# Altium footprint library PcbLib.PcbLib: 18 footprints (part 2 of 2)
Each footprint in its own frame and in the unit in brackets; x right, y up, seen from the top. Pads: shape width x height; smd on the part's side, far side on the other; paste and mask are expansions set on the pad; w line width, h text height; cw(c..) or ccw(c..) is an arc to the next point about the centre after c.
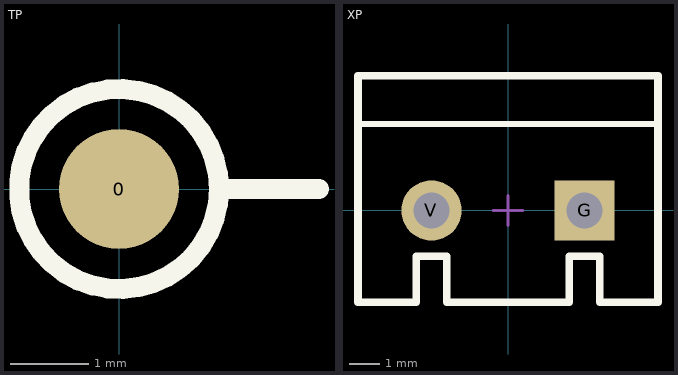
[diagram p1: the footprints below, top view; thin cyan lines are the x and y axes]

## TP [mil]
pads (1):
  round 60 smd: 0(0,0)
Top Overlay:
  circle w10: c0,0 r50
  lines w10: 50,0 100,0

## XP [mm]
pads (2):
  rect 2x2 hole 1.2: G(2.54,0)
  round 2 hole 1.2: V(-2.54,0)
Top Overlay:
  lines w0.2: -4.978,-3.048 -4.978,4.47 4.978,4.47 4.978,-3.048 ; -4.953,2.87 4.864,2.87
  lines w0.254: -4.978,-3.048 -4.978,4.47 4.978,4.47 4.978,-3.048 ; -4.978,-3.048 -3.048,-3.048 ; -4.978,-3.048 -3.048,-3.048 ; -3.048,-3.048 -3.048,-1.524 -2.032,-1.524 -2.032,-3.048 2.032,-3.048 ; 2.032,-3.048 2.032,-1.524 ; 2.032,-3.048 2.032,-1.524 ; 2.032,-1.524 3.048,-1.524 ; 2.032,-1.524 3.048,-1.524 ; 3.048,-3.048 3.048,-1.524 ; 3.048,-3.048 3.048,-1.524 ; 3.048,-3.048 4.978,-3.048 ; 3.048,-3.048 4.978,-3.048
Mechanical 15:
  lines w0.1: -0.5,0 0.5,0 ; 0,-0.5 0,0.5
3D body "User Library-DG306-5_0-1.STEP": height 9.8, standoff -3.9, extent -5.022,-3.089 4.978,4.511